# EAGLE library part DSPIC33EP256GP502 (library dsPIC33EP256GP502)
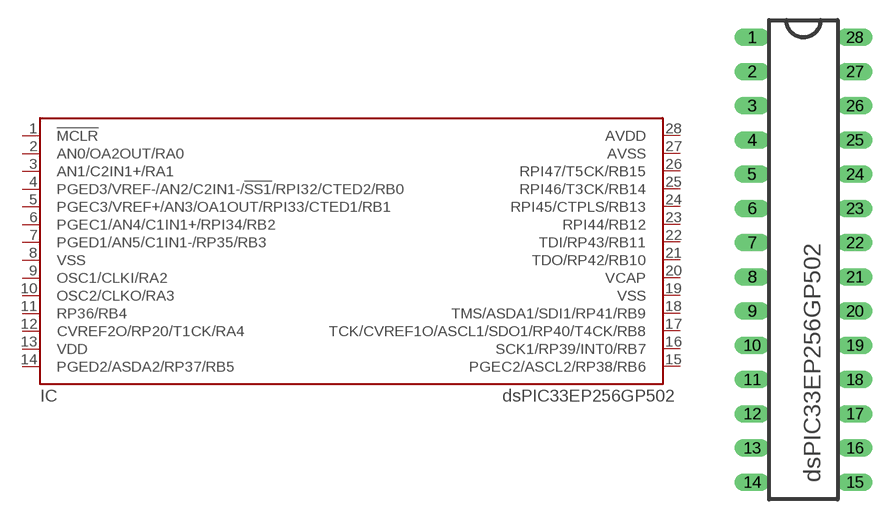
[diagram p0: symbol with the pads of DIL28; footprint DIL28]

Designator prefix IC

## DSPIC33EP256GP502  [DIL28]
1  !MCLR!
2  AN0/OA2OUT/RA0
3  AN1/C2IN1+/RA1
4  PGED3/VREF-/AN2/C2IN1-/!SS1!/RPI32/CTED2/RB0
5  PGEC3/VREF+/AN3/OA1OUT/RPI33/CTED1/RB1
6  PGEC1/AN4/C1IN1+/RPI34/RB2
7  PGED1/AN5/C1IN1-/RP35/RB3
8  VSS
9  OSC1/CLKI/RA2
10  OSC2/CLKO/RA3
11  RP36/RB4
12  CVREF2O/RP20/T1CK/RA4
13  VDD
14  PGED2/ASDA2/RP37/RB5
15  PGEC2/ASCL2/RP38/RB6
16  SCK1/RP39/INT0/RB7
17  TCK/CVREF1O/ASCL1/SDO1/RP40/T4CK/RB8
18  TMS/ASDA1/SDI1/RP41/RB9
19  VSS
20  VCAP
21  TDO/RP42/RB10
22  TDI/RP43/RB11
23  RPI44/RB12
24  RPI45/CTPLS/RB13
25  RPI46/T3CK/RB14
26  RPI47/T5CK/RB15
27  AVSS
28  AVDD

## Footprint DIL28 (pad centres in mm)
drill 0.8 long: 1 -3.81,16.51; 2 -3.81,13.97; 3 -3.81,11.43; 4 -3.81,8.89; 5 -3.81,6.35; 6 -3.81,3.81; 7 -3.81,1.27; 8 -3.81,-1.27; 9 -3.81,-3.81; 10 -3.81,-6.35; 11 -3.81,-8.89; 12 -3.81,-11.43; 13 -3.81,-13.97; 14 -3.81,-16.51; 15 3.81,-16.51; 16 3.81,-13.97; 17 3.81,-11.43; 18 3.81,-8.89; 19 3.81,-6.35; 20 3.81,-3.81; 21 3.81,-1.27; 22 3.81,1.27; 23 3.81,3.81; 24 3.81,6.35; 25 3.81,8.89; 26 3.81,11.43; 27 3.81,13.97; 28 3.81,16.51